# EAGLE library part 418311170808 (library Wurth_Elektronik_Electromechanic_Switch_rev17b)
WS-PT 2.54 mm piano type compact SMD Dip Switch with flat actuator, 8 Pole
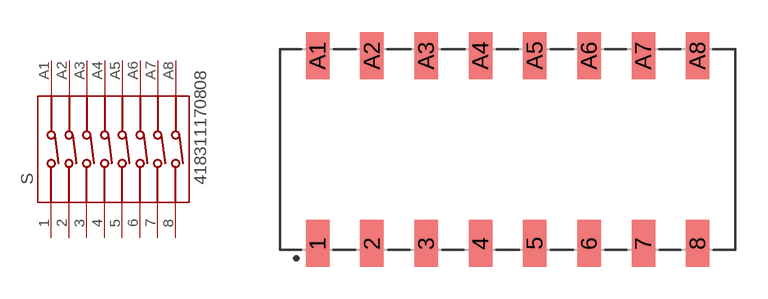
[diagram p79: symbol with the pads of 418311170808; footprint 418311170808]

Designator prefix S

## 418311170808  [418311170808]
1  1  pas
2  2  pas
3  3  pas
4  4  pas
5  5  pas
6  6  pas
7  7  pas
8  8  pas
A1  A1  pas
A2  A2  pas
A3  A3  pas
A4  A4  pas
A5  A5  pas
A6  A6  pas
A7  A7  pas
A8  A8  pas

## Footprint 418311170808 (pad centres in mm)
WS-PT 2.54 mm piano type compact SMD Dip Switch with flat actuator, 8 Pole
smd 1.1 x 2.2: 1 -8.89,-4.4; 2 -6.35,-4.4; 3 -3.81,-4.4; 4 -1.27,-4.4; 5 1.27,-4.4; 6 3.81,-4.4; 7 6.35,-4.4; 8 8.89,-4.4; A1 -8.89,4.4; A2 -6.35,4.4; A3 -3.81,4.4; A4 -1.27,4.4; A5 1.27,4.4; A6 3.81,4.4; A7 6.35,4.4; A8 8.89,4.4